# EAGLE library part CP2102N-A02-GQFN20 (library SamacSys_Parts)
USB Interface IC USB to UART bridge - QFN20 Source: Datasheet <https://www.silabs.com/documents/public/data-sheets/cp2102n-datasheet.pdf>
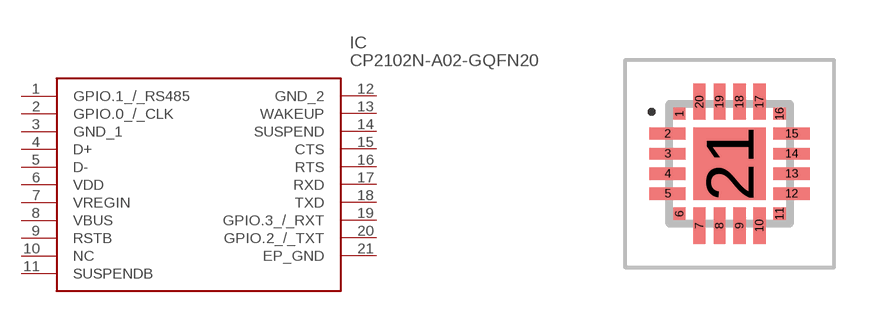
[diagram p173: symbol with the pads of CP2102NA02GQFN20; footprint CP2102NA02GQFN20]

Designator prefix IC

## CP2102N-A02-GQFN20 (DESCRIPTION: USB Interface IC USB to UART bridge - QFN20; HEIGHT: 0.8mm; MANUFACTURER_NAME: Silicon Labs; MANUFACTURER_PART_NUMBER: CP2102N-A02-GQFN20; MOUSER_PART_NUMBER: 634-CP2102NA02GQFN20; MOUSER_PRICE-STOCK: https://www.mouser.co.uk/ProductDetail/Silicon-Labs/CP2102N-A02-GQFN20?qs=u16ybLDytRaG8WdlP0fT2g%3D%3D)  [CP2102NA02GQFN20]
1  GPIO.1_/_RS485
2  GPIO.0_/_CLK
3  GND_1
4  D+
5  D-
6  VDD
7  VREGIN
8  VBUS
9  RSTB
10  NC  nc
11  SUSPENDB
12  GND_2
13  WAKEUP
14  SUSPEND
15  CTS
16  RTS
17  RXD
18  TXD
19  GPIO.3_/_RXT
20  GPIO.2_/_TXT
21  EP_GND

## Footprint CP2102NA02GQFN20 (pad centres in mm)
QFN20_FFW
smd 0.3 x 0.3: 1 -1.25,1.25; 6 -1.25,-1.25; 11 1.25,-1.25; 16 1.25,1.25
smd 0.9 x 0.3: 2 -1.55,0.75; 3 -1.55,0.25; 4 -1.55,-0.25; 5 -1.55,-0.75; 12 1.55,-0.75; 13 1.55,-0.25; 14 1.55,0.25; 15 1.55,0.75
smd 0.3 x 0.9: 7 -0.75,-1.55; 8 -0.25,-1.55; 9 0.25,-1.55; 10 0.75,-1.55; 17 0.75,1.55; 18 0.25,1.55; 19 -0.25,1.55; 20 -0.75,1.55
smd 1.8 x 1.8: 21 0,0